# Altium schematic symbol library ATTINY85-20SU.SchLib: 1 symbol
Pins are listed as number, name and electrical type; pins without a type are passive.

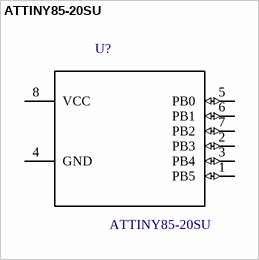
[diagram p0: symbol ATTINY85-20SU]

## ATTINY85-20SU
designator U?
AVR AVRÂ® ATtiny Microcontroller IC 8-Bit 20MHz 8KB _4K x 16_ FLASH 8-SOIC; MF: Microchip; Package: SOIC-8 Atmel; Availability: Unavailable; SnapEDA_Link: https://www.snapeda.com/parts/ATTINY85-20SU/Microchip/view-part/46337/?ref=snap; MP: ATTINY85-20SU; Price: None; Value: *
footprint *SOIC127P798X216-8N
pins: 1 PB5 (io), 2 PB3 (io), 3 PB4 (io), 4 GND, 5 PB0 (io), 6 PB1 (io), 7 PB2 (io), 8 VCC (power)